# Altium schematic symbol library HDC1105W-TR.SchLib: 1 symbol
Pins are listed as number, name and electrical type; pins without a type are passive.

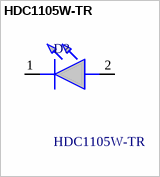
[diagram p0: symbol HDC1105W-TR]

## HDC1105W-TR
designator D?
LED BLUE-GREEN CLEAR SMD; Manufacturer_Name: Stanley Electric; Geometry.Height: 1.95mm; Manufacturer_Part_Number: HDC1105W-TR; Mouser Part Number: *; Mouser Price/Stock: *; Arrow Part Number: *; Arrow Price/Stock: *; Datasheet Link: https://media.digikey.com/pdf/Data%20Sheets/Stanley%20Electric%20PDFs/HD_1105W%20Series.pdf
footprint HDC1105WTR
pins: 1 K, 2 A